# Altium schematic symbol library CY62157EV30LL-55ZSXE.SchLib: 1 symbol
Pins are listed as number, name and electrical type; pins without a type are passive.

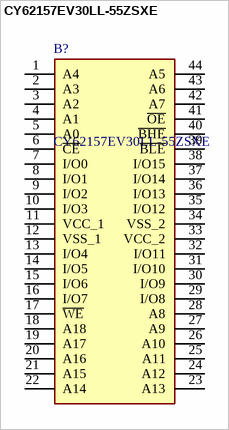
[diagram p0: symbol CY62157EV30LL-55ZSXE]

## CY62157EV30LL-55ZSXE
designator B?
Cypress Semiconductor CY62157EV30LL-55ZSXE SRAM Memory, 8Mbit, 2.2  3.6 V, 55ns 44-Pin TSOP; Manufacturer_Name: Infineon; Geometry.Height: 1.194mm; Farnell Part Number: *; Farnell Price/Stock: *; Manufacturer_Part_Number: CY62157EV30LL-55ZSXE; Datasheet Link: https://www.cypress.com/file/43021/download
footprint SOP80P1184X119-44N
pins: 1 A4, 2 A3, 3 A2, 4 A1, 5 A0, 6 ~{CE}, 7 I/O0, 8 I/O1, 9 I/O2, 10 I/O3, 11 VCC_1, 12 VSS_1, 13 I/O4, 14 I/O5, 15 I/O6, 16 I/O7, 17 ~{WE}, 18 A18, 19 A17, 20 A16, 21 A15, 22 A14, 23 A13, 24 A12, 25 A11, 26 A10, 27 A9, 28 A8, 29 I/O8, 30 I/O9, 31 I/O10, 32 I/O11, 33 VCC_2, 34 VSS_2, 35 I/O12, 36 I/O13, 37 I/O14, 38 I/O15, 39 ~{BLE}, 40 ~{BHE}, 41 ~{OE}, 42 A7, 43 A6, 44 A5